# EAGLE library part MC10ELT28DG (library ON_Semiconductor_By_element14_Batch_1)
5 V TTL to Differential PECL and Differential PECL to TTL Translator
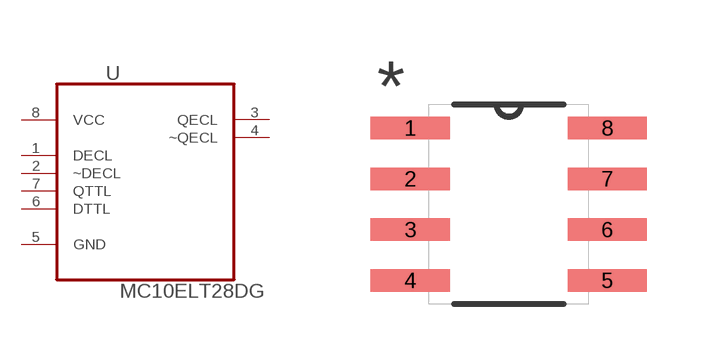
[diagram p171: symbol with the pads of SOIC127P600X175-8N; footprint SOIC127P600X175-8N]

Designator prefix U

## MC10ELT28DG (MPN: MC10ELT28DG; OC_FARNELL: 1263934; OC_NEWARK: 26K3714; PACKAGE: SOIC-8; SUPPLIER: Onsemiconductor)  [SOIC127P600X175-8N]
1  DECL  in
2  ~DECL  in
3  QECL  out
4  ~QECL  out
5  GND  pas
6  DTTL  in
7  QTTL  in
8  VCC  pwr

## Footprint SOIC127P600X175-8N (pad centres in mm)
smd 1.981 x 0.559: 1 -2.464,1.905; 2 -2.464,0.635; 3 -2.464,-0.635; 4 -2.464,-1.905; 5 2.464,-1.905; 6 2.464,-0.635; 7 2.464,0.635; 8 2.464,1.905